# Altium footprint library PcbLib1.PcbLib: 1 footprints
Each footprint in its own frame and in the unit in brackets; x right, y up, seen from the top. Pads: shape width x height; smd on the part's side, far side on the other; paste and mask are expansions set on the pad; w line width, h text height; cw(c..) or ccw(c..) is an arc to the next point about the centre after c.

## PCBComponent_1 [mm]
via -701.802,-809.879 diameter 1.27 hole 0.711
via -704.723,-809.879 diameter 1.27 hole 0.711
via -876.427,-798.195 diameter 1.27 hole 0.711